# EAGLE library part SIL2X6 (library lib_paul)
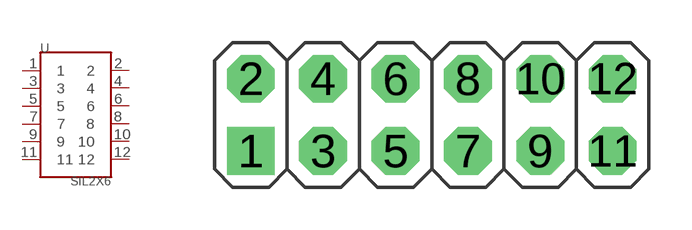
[diagram p9: symbol with the pads of CON2X6-2.54; footprint CON2X6-2.54]

Designator prefix -

## SIL2X6  [CON2X6-2.54]
1  1
2  2
3  3
4  4
5  5
6  6
7  7
8  8
9  9
10  10
11  11
12  12

## Footprint CON2X6-2.54 (pad centres in mm)
drill 1 pad 1.676 square: 1 -6.35,-1.27
drill 1 pad 1.676 octagon: 2 -6.35,1.27; 3 -3.81,-1.27; 4 -3.81,1.27; 5 -1.27,-1.27; 6 -1.27,1.27; 7 1.27,-1.27; 8 1.27,1.27; 9 3.81,-1.27; 10 3.81,1.27; 11 6.35,-1.27; 12 6.35,1.27